# EAGLE library part HARLINK (library Traficon)
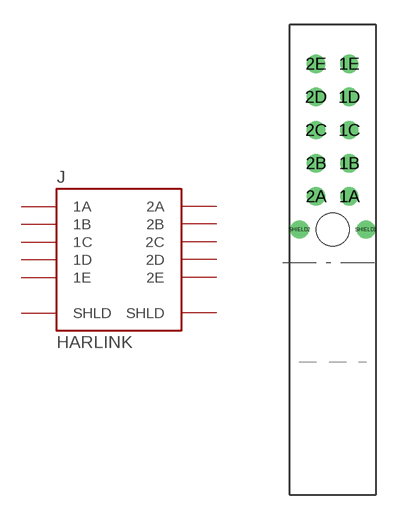
[diagram p200: symbol with the pads of HARLINK; footprint HARLINK]

Designator prefix J

## HARLINK  [HARLINK]
1A  1A  pas
1B  1B  pas
1C  1C  pas
1D  1D  pas
1E  1E  pas
2A  2A  pas
2B  2B  pas
2C  2C  pas
2D  2D  pas
2E  2E  pas
SHIELD1  SHLD  pas
SHIELD2  SHLD  pas

## Footprint HARLINK (pad centres in mm)
drill 0.6 round: 1A 1,2; 1B 1,4; 1C 1,6; 1D 1,8; 1E 1,10; 2A -1,2; 2B -1,4; 2C -1,6; 2D -1,8; 2E -1,10; SHIELD1 2,0; SHIELD2 -2,0
hole 2 at 0,0